# EAGLE library part IC_SJA1000? (library psas_eagle_library)
Philips SJA1000 CAN Protocol Chip in an SO28 Package
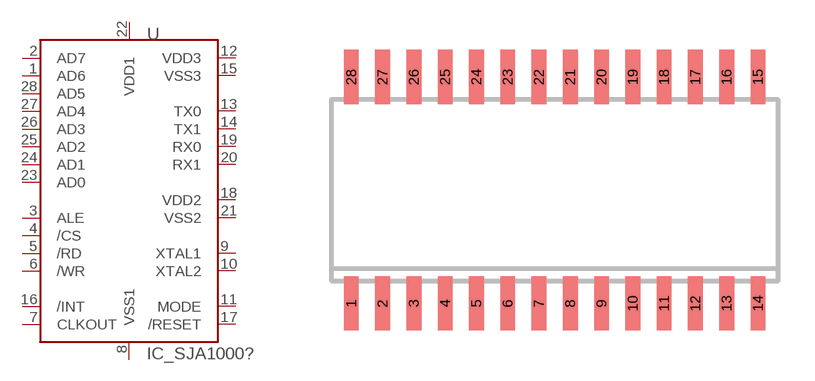
[diagram p0: symbol with the pads of SO28W; footprint SO28W]

Designator prefix U

## IC_SJA1000T  [SO28W]
1  AD6
2  AD7
3  ALE  in
4  /CS  in
5  /RD  in
6  /WR  in
7  CLKOUT  out
8  VSS1  pwr
9  XTAL1  pas
10  XTAL2  pas
11  MODE  in
12  VDD3  pwr
13  TX0  out
14  TX1  out
15  VSS3  pwr
16  /INT  out
17  /RESET  in
18  VDD2  pwr
19  RX0  in
20  RX1  in
21  VSS2  pwr
22  VDD1  pwr
23  AD0
24  AD1
25  AD2
26  AD3
27  AD4
28  AD5

## Footprint SO28W (pad centres in mm)
SMALL OUTLINE INTEGRATED CIRCUIT wide body 7.5 mm/JEDEC MO-119AB
smd 0.6 x 2.2: 1 -8.89,-4.6; 2 -7.62,-4.6; 3 -6.35,-4.6; 4 -5.08,-4.6; 5 -3.81,-4.6; 6 -2.54,-4.6; 7 -1.27,-4.6; 8 0,-4.6; 9 1.27,-4.6; 10 2.54,-4.6; 11 3.81,-4.6; 12 5.08,-4.6; 13 6.35,-4.6; 14 7.62,-4.6; 15 7.62,4.6; 16 6.35,4.6; 17 5.08,4.6; 18 3.81,4.6; 19 2.54,4.6; 20 1.27,4.6; 21 0,4.6; 22 -1.27,4.6; 23 -2.54,4.6; 24 -3.81,4.6; 25 -5.08,4.6; 26 -6.35,4.6; 27 -7.62,4.6; 28 -8.89,4.6